# Altium integrated library Res2K2_1210.IntLib: 1 symbol
Pins are listed as number, name and electrical type; pins without a type are passive.

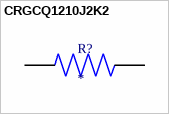
[diagram p0: symbol CRGCQ1210J2K2]

## CRGCQ1210J2K2
designator R?
Fixed Resistor CRGCQ 1210 2K2 5%; MP: CRGCQ1210J2K2; Package: None; Price: None; Value: *; Availability: Unavailable
footprint RESC3126X65N
pins: 1, 2